# EAGLE library part 691241810010 (library Wurth_Connectors_WR-TBL Rising Cage Clamp)
WR-TBL Serie 2418 - 10.00 mm Horizontal Entry w. Rising Cage Clamp KIND PROPERTIES Pitch 10 mm MATERIAL PROPERTIES Insulator Material PA6/66 Insulator Flammability Rating UL94 V-0 Insulator Color Green Contact Material Copper Alloy Contact Plating Nickel Terminal Screw Material Steel Terminal Screw Plating Zinc Wire Guard Material Copper Alloy with Tin over Nickel GENERAL INFORMATION Operating Temperature -30 up to +120 °C Compliance Lead free / RoHS ELECTRICAL PROPERTIES IR UL 14 A IR VDE 14 A Working Voltage [UL] 300 V (AC) Working Voltage [VDE] 750 V (AC) Withstanding Voltage [UL] 1600 V (AC) Withstanding Voltage [VDE] 3000 V (AC) Contact Resistance 20 mΩ MECHANICAL PROPERTIES Wire Strip Length 6 (mm) Screw M3 CERTIFICATION UL Approval E150931 Cat No. CIA (4) VDE Approval 40021365 Type CIA PACKAGING PROPERTIES Packaging Box <https://www.we-online.com/catalog/media/o84245v209%20Family_WR-TBL2_6912418100xx.jpg> Details see: https://www.we-online.com/catalog/en/TBL_10_00_2418_HORIZONTAL_ENTRY_W_RISING_CAGE_CLAMP_6912418100xx/ Updated by Ella Wu 2019-11-29 2019(C) Wurth Elektronik
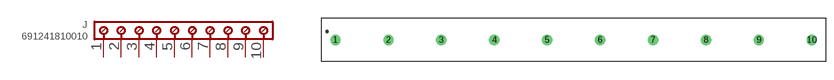
[diagram p133: symbol with the pads of 691241810010; footprint 691241810010]

Designator prefix J

## 691241810010 (IR-UL: 14A; IR-VDE: 14A; PART-NUMBER: 691241810010; PINS: 10; PITCH: 10mm; TYPE: Horizontal; WIRE: 14 to 30 (AWG) 2.08 to 0.0509 (mm²); WORKING-VOLTAGE-UL: 300V (AC); WORKING-VOLTAGE-VDE: 750V (AC))  [691241810010]
1  1  pas
2  2  pas
3  3  pas
4  4  pas
5  5  pas
6  6  pas
7  7  pas
8  8  pas
9  9  pas
10  10  pas

## Footprint 691241810010 (pad centres in mm)
WR-TBL Serie 2418 - 10.00 mm Horizontal Entry w. Rising Cage Clamp Max Height =10mm , Pitch 10mm , 10 Pins
drill 1.3: 1 -45,0; 2 -35,0; 3 -25,0; 4 -15,0; 5 -5,0; 6 5,0; 7 15,0; 8 25,0; 9 35,0; 10 45,0